# Altium footprint library DFN-6(2.0X2.0)_WF.PcbLib: 1 footprints
Each footprint in its own frame and in the unit in brackets; x right, y up, seen from the top. Pads: shape width x height; smd on the part's side, far side on the other; paste and mask are expansions set on the pad; w line width, h text height; cw(c..) or ccw(c..) is an arc to the next point about the centre after c.
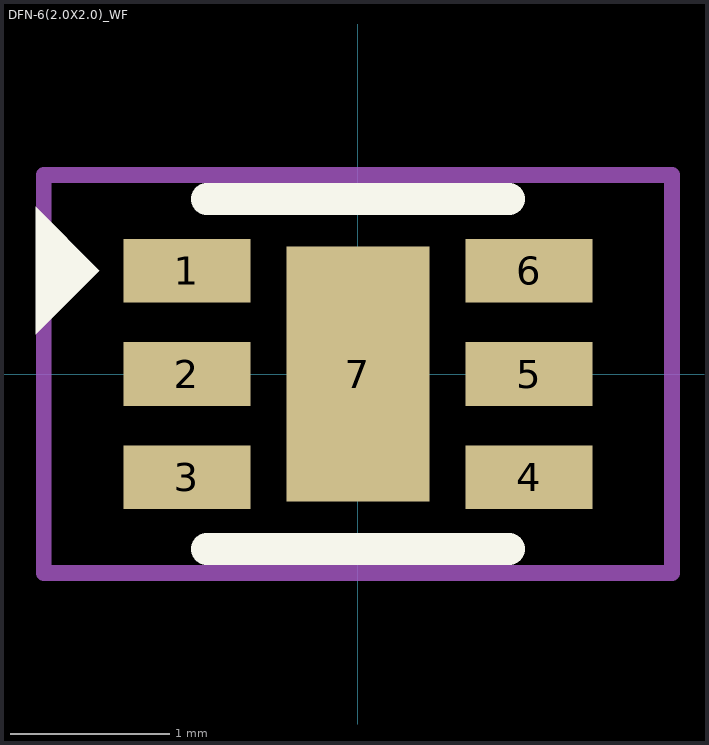
[diagram p0: the footprint, top view; thin cyan lines are the x and y axes]

## DFN-6(2.0X2.0)_WF [mm]
pads (7):
  rect 0.8x0.4 smd: 1(-1.075,0.65) 2(-1.075,0) 3(-1.075,-0.65) 4(1.075,-0.65) 5(1.075,0) 6(1.075,0.65)
  rect 0.9x1.6 smd: 7(0,0)
Top Overlay:
  region: -2.025,0.25 -2.025,1.05 -1.625,0.65
  lines w0.2: -0.95,-1.1 0.95,-1.1 ; -0.95,1.1 0.95,1.1
Top Courtyard:
  lines w0.1: -1.975,-1.25 -1,-1.25 1.975,-1.25 1.975,1.25 -1.975,1.25 -1.975,-1.25
3D body "LDQ40PU50RY.stp": height 0.8, standoff 0, extent -1.05,-1 1.05,1